# Altium footprint library 8-PowerVFDN.PcbLib: 1 footprints
Each footprint in its own frame and in the unit in brackets; x right, y up, seen from the top. Pads: shape width x height; smd on the part's side, far side on the other; paste and mask are expansions set on the pad; w line width, h text height; cw(c..) or ccw(c..) is an arc to the next point about the centre after c.
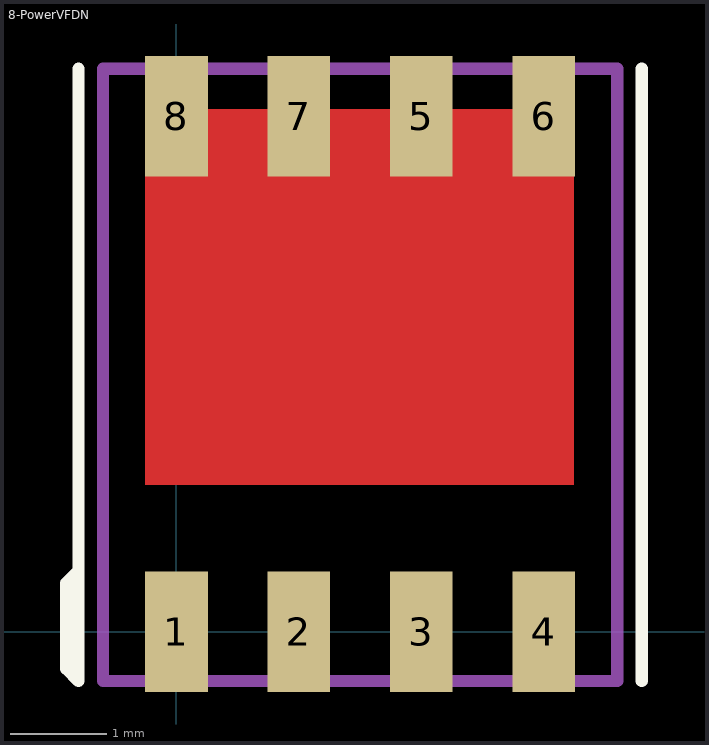
[diagram p0: the footprint, top view; thin cyan lines are the x and y axes]

## 8-PowerVFDN [mm]
pads (8):
  rect 0.65x1.25 smd: 1(0,0) 2(1.27,0) 3(2.54,0) 4(3.81,0) 5(2.54,5.35) 6(3.81,5.35) 7(1.27,5.35) 8(0,5.35)
Top Layer:
  rectangle: -0.325,1.525 4.125,5.425
Top Overlay:
  lines w0.127: -1.016,0.635 -1.143,0.508 -1.143,-0.254 -1.143,-0.381 -1.016,-0.508 -1.016,5.842 ; 4.826,-0.508 4.826,5.842
Mechanical 13:
  lines w0.127: -0.762,-0.508 4.572,-0.508 4.572,5.842 -0.762,5.842 -0.762,-0.508
Mechanical 15:
  lines w0.127: 1.651,3.048 1.905,3.048 ; 1.905,2.794 1.905,3.048 ; 1.905,3.302 1.905,3.048 ; 2.159,3.048 1.905,3.048
3D body "POWERFLAT_5X6_C_STM.step": height 0.99, standoff 0, extent -0.8,-0.508 4.61,5.842